# Altium integrated library Maxim Logic Switch.IntLib: 311 symbols (part 5 of 6)
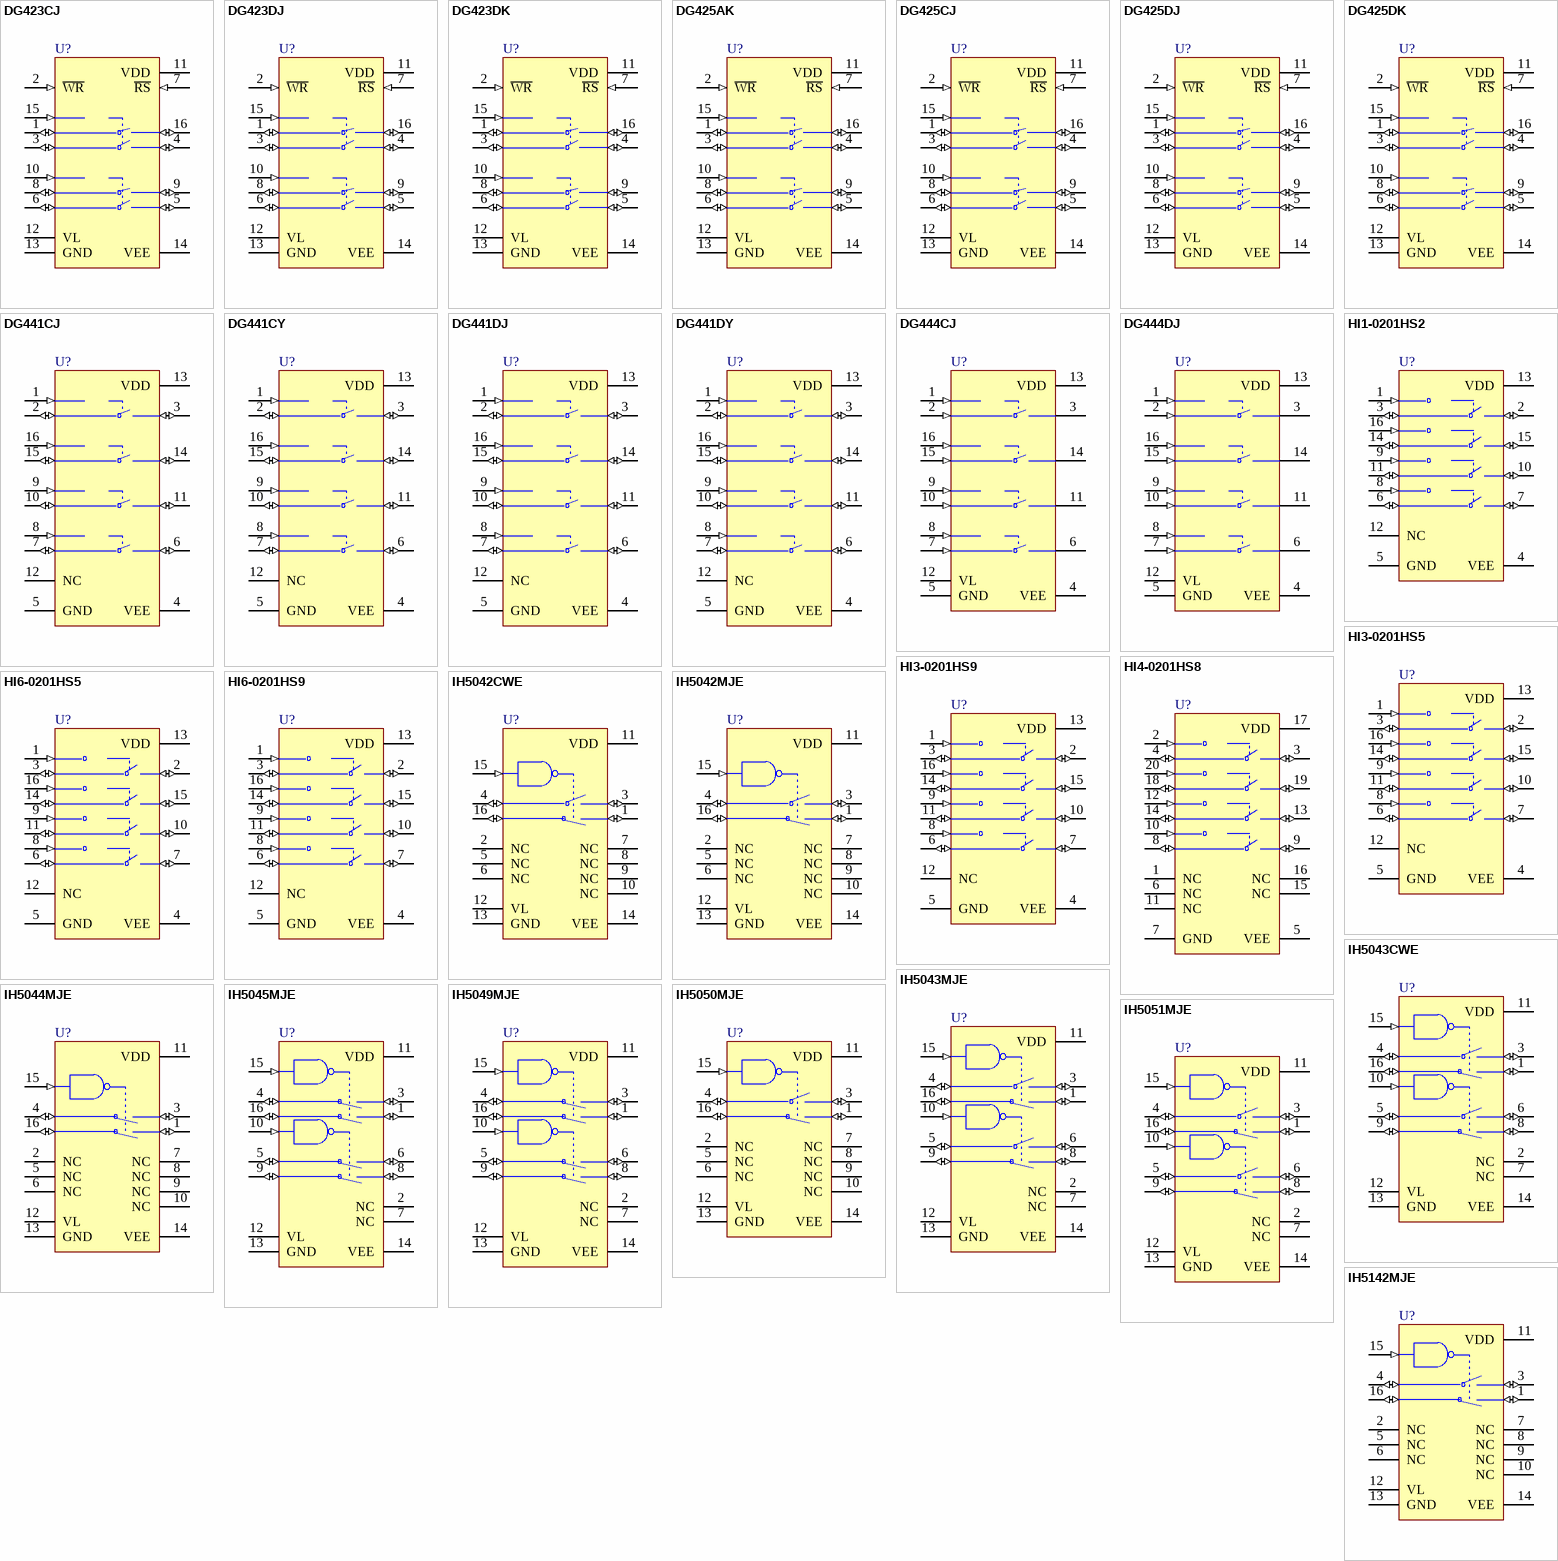
[diagram p14: symbols DG423CJ to IH5142MJE]

## IH5050MJE
designator U?
CMOS Analog Switch; Published: 16-Jan-2001; LatestRevisionDate: 29-May-2009; LatestRevisionNote: Component Body Added.; DatasheetVersion: Dec-1992; PackageVersion: 1996; PackageReference: JE16; Publisher: Altium Limited; PackageDescription: DIP, 16-Pin, Row Spacing 7.62 mm, Pitch 2.54 mm; ComponentLink1Description: Manufacturer Link; ComponentLink1URL: http://www.maxim-ic.com/; ComponentLink2Description: Datasheet; ComponentLink2URL: http://pdfserv.maxim-ic.com/en/ds/IH5048-IH5051.pdf
footprint JE16 (DIP, 16-Leads, Row Spacing 7.62mm, Pitch 2.54mm, Body 20.37x6.73mm)
3D model JE16 (DIP, 16-Pin, Row Spacing 7.62 mm, Pitch 2.54 mm)
pins: 1 D1 (io), 2 NC, 3 D2 (io), 4 S2 (io), 5 NC, 6 NC, 7 NC, 8 NC, 9 NC, 10 NC, 11 VDD (power), 12 VL (power), 13 GND (power), 14 VEE (power), 15 IN (in), 16 S1 (io)

## IH5051MJE
designator U?
CMOS Analog Switch; Published: 16-Jan-2001; LatestRevisionDate: 29-May-2009; LatestRevisionNote: Component Body Added.; DatasheetVersion: Dec-1992; PackageVersion: 1996; PackageReference: JE16; Publisher: Altium Limited; PackageDescription: DIP, 16-Pin, Row Spacing 7.62 mm, Pitch 2.54 mm; ComponentLink1Description: Manufacturer Link; ComponentLink1URL: http://www.maxim-ic.com/; ComponentLink2Description: Datasheet; ComponentLink2URL: http://pdfserv.maxim-ic.com/en/ds/IH5048-IH5051.pdf
footprint JE16 (DIP, 16-Leads, Row Spacing 7.62mm, Pitch 2.54mm, Body 20.37x6.73mm)
3D model JE16 (DIP, 16-Pin, Row Spacing 7.62 mm, Pitch 2.54 mm)
pins: 1 D1 (io), 2 NC, 3 D3 (io), 4 S3 (io), 5 S4 (io), 6 D4 (io), 7 NC, 8 D2 (io), 9 S2 (io), 10 IN2 (in), 11 VDD (power), 12 VL (power), 13 GND (power), 14 VEE (power), 15 IN1 (in), 16 S1 (io)

## IH5142MJE
designator U?
Low Power Fast CMOS Analog Switch; Published: 16-Jan-2001; LatestRevisionDate: 29-May-2009; LatestRevisionNote: Component Body Added.; PackageVersion: 1996; PackageReference: JE16; Publisher: Altium Limited; PackageDescription: DIP, 16-Pin, Row Spacing 7.62 mm, Pitch 2.54 mm; ComponentLink1Description: Manufacturer Link; ComponentLink1URL: http://www.maxim-ic.com/; ComponentLink2Description: Datasheet; ComponentLink2URL: http://pdfserv.maxim-ic.com/en/ds/IH5140-IH5145.pdf
footprint JE16 (DIP, 16-Leads, Row Spacing 7.62mm, Pitch 2.54mm, Body 20.37x6.73mm)
3D model JE16 (DIP, 16-Pin, Row Spacing 7.62 mm, Pitch 2.54 mm)
pins: 1 D1 (io), 2 NC, 3 D2 (io), 4 S2 (io), 5 NC, 6 NC, 7 NC, 8 NC, 9 NC, 10 NC, 11 VDD (power), 12 VL (power), 13 GND (power), 14 VEE (power), 15 IN (in), 16 S1 (io)

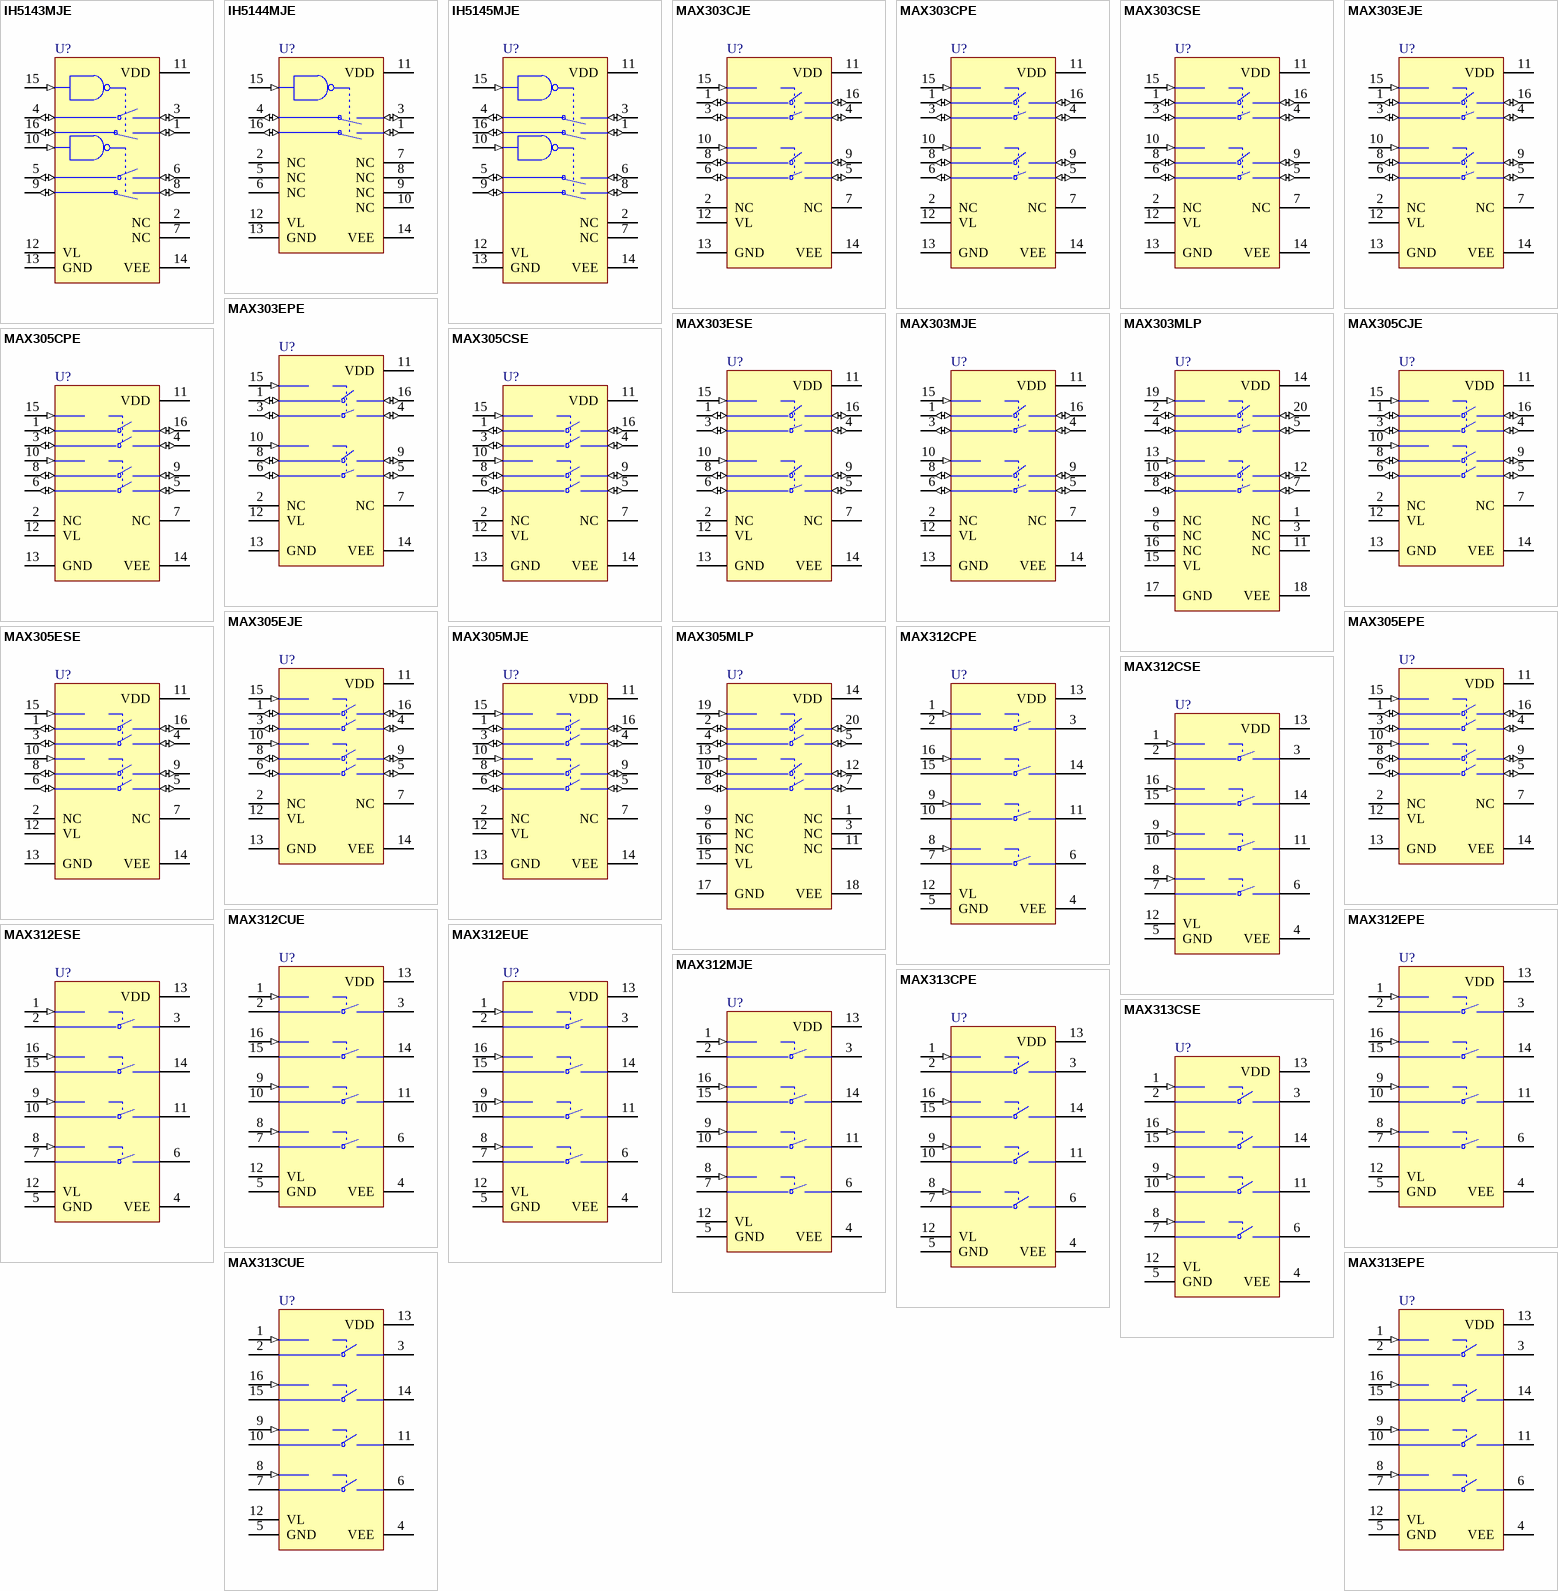
[diagram p7: symbols IH5143MJE to MAX313EPE]

## IH5143MJE
designator U?
Low Power Fast CMOS Analog Switch; Published: 16-Jan-2001; LatestRevisionDate: 29-May-2009; LatestRevisionNote: Component Body Added.; PackageVersion: 1996; PackageReference: JE16; Publisher: Altium Limited; PackageDescription: DIP, 16-Pin, Row Spacing 7.62 mm, Pitch 2.54 mm; ComponentLink1Description: Manufacturer Link; ComponentLink1URL: http://www.maxim-ic.com/; ComponentLink2Description: Datasheet; ComponentLink2URL: http://pdfserv.maxim-ic.com/en/ds/IH5140-IH5145.pdf
footprint JE16 (DIP, 16-Leads, Row Spacing 7.62mm, Pitch 2.54mm, Body 20.37x6.73mm)
3D model JE16 (DIP, 16-Pin, Row Spacing 7.62 mm, Pitch 2.54 mm)
pins: 1 D1 (io), 2 NC, 3 D3 (io), 4 S3 (io), 5 S4 (io), 6 D4 (io), 7 NC, 8 D2 (io), 9 S2 (io), 10 IN2 (in), 11 VDD (power), 12 VL (power), 13 GND (power), 14 VEE (power), 15 IN1 (in), 16 S1 (io)

## IH5144MJE
designator U?
Low Power Fast CMOS Analog Switch; Published: 16-Jan-2001; LatestRevisionDate: 29-May-2009; LatestRevisionNote: Component Body Added.; PackageVersion: 1996; PackageReference: JE16; Publisher: Altium Limited; PackageDescription: DIP, 16-Pin, Row Spacing 7.62 mm, Pitch 2.54 mm; ComponentLink1Description: Manufacturer Link; ComponentLink1URL: http://www.maxim-ic.com/; ComponentLink2Description: Datasheet; ComponentLink2URL: http://pdfserv.maxim-ic.com/en/ds/IH5140-IH5145.pdf
footprint JE16 (DIP, 16-Leads, Row Spacing 7.62mm, Pitch 2.54mm, Body 20.37x6.73mm)
3D model JE16 (DIP, 16-Pin, Row Spacing 7.62 mm, Pitch 2.54 mm)
pins: 1 D1 (io), 2 NC, 3 D2 (io), 4 S2 (io), 5 NC, 6 NC, 7 NC, 8 NC, 9 NC, 10 NC, 11 VDD (power), 12 VL (power), 13 GND (power), 14 VEE (power), 15 IN (in), 16 S1 (io)

## IH5145MJE
designator U?
Low Power Fast CMOS Analog Switch; Published: 16-Jan-2001; LatestRevisionDate: 29-May-2009; LatestRevisionNote: Component Body Added.; PackageVersion: 1996; PackageReference: JE16; Publisher: Altium Limited; PackageDescription: DIP, 16-Pin, Row Spacing 7.62 mm, Pitch 2.54 mm; ComponentLink1Description: Manufacturer Link; ComponentLink1URL: http://www.maxim-ic.com/; ComponentLink2Description: Datasheet; ComponentLink2URL: http://pdfserv.maxim-ic.com/en/ds/IH5140-IH5145.pdf
footprint JE16 (DIP, 16-Leads, Row Spacing 7.62mm, Pitch 2.54mm, Body 20.37x6.73mm)
3D model JE16 (DIP, 16-Pin, Row Spacing 7.62 mm, Pitch 2.54 mm)
pins: 1 D1 (io), 2 NC, 3 D3 (io), 4 S3 (io), 5 S4 (io), 6 D4 (io), 7 NC, 8 D2 (io), 9 S2 (io), 10 IN2 (in), 11 VDD (power), 12 VL (power), 13 GND (power), 14 VEE (power), 15 IN1 (in), 16 S1 (io)

## MAX303CJE
designator U?
Precision, Dual, High-speed Analog Switch; Published: 16-Jan-2001; LatestRevisionDate: 29-May-2009; LatestRevisionNote: Component Body Added.; DatasheetVersion: Sep-1993; PackageVersion: 1996; PackageReference: JE16; Publisher: Altium Limited; PackageDescription: DIP, 16-Pin, Row Spacing 7.62 mm, Pitch 2.54 mm; ComponentLink1Description: Manufacturer Link; ComponentLink1URL: http://www.maxim-ic.com/; ComponentLink2Description: Datasheet; ComponentLink2URL: http://pdfserv.maxim-ic.com/en/ds/MAX301-MAX305.pdf
footprint JE16 (DIP, 16-Leads, Row Spacing 7.62mm, Pitch 2.54mm, Body 20.37x6.73mm)
3D model JE16 (DIP, 16-Pin, Row Spacing 7.62 mm, Pitch 2.54 mm)
pins: 1 COM1 (io), 2 NC, 3 COM3 (io), 4 NC3 (io), 5 NC4 (io), 6 COM4 (io), 7 NC, 8 COM2 (io), 9 NO2 (io), 10 IN2 (in), 11 VDD (power), 12 VL (power), 13 GND (power), 14 VEE (power), 15 IN1 (in), 16 NO1 (io)

## MAX303CPE
designator U?
Precision, Dual, High-speed Analog Switch; Published: 16-Jan-2001; LatestRevisionDate: 29-May-2009; LatestRevisionNote: Component Body Added.; DatasheetVersion: Sep-1993; PackageVersion: 1997; PackageReference: PE16A; Publisher: Altium Limited; PackageDescription: DIP, 16-Pin, Row Spacing 7.62 mm, Pitch 2.54 mm; Code_JEDEC: MS-001-BB; ComponentLink1Description: Manufacturer Link; ComponentLink1URL: http://www.maxim-ic.com/; ComponentLink2Description: Datasheet; ComponentLink2URL: http://pdfserv.maxim-ic.com/en/ds/MAX301-MAX305.pdf
footprint PE16A (DIP, 16-Leads, Row Spacing 7.62mm, Pitch 2.54mm, Body 19.18x6.99mm)
3D model PE16 (DIP, 16-Pin, Row Spacing 7.62 mm, Pitch 2.54 mm)
pins: 1 COM1 (io), 2 NC, 3 COM3 (io), 4 NC3 (io), 5 NC4 (io), 6 COM4 (io), 7 NC, 8 COM2 (io), 9 NO2 (io), 10 IN2 (in), 11 VDD (power), 12 VL (power), 13 GND (power), 14 VEE (power), 15 IN1 (in), 16 NO1 (io)

## MAX303CSE
designator U?
Precision, Dual, High-speed Analog Switch; Published: 16-Jan-2001; LatestRevisionDate: 13-Apr-2006; LatestRevisionNote: IPC-7351 Footprint Added.; DatasheetVersion: Sep-1993; PackageReference: NSO16; Publisher: Altium Limited; PackageDescription: 16-Pin Small Outline Integrated Circuit 1.27 mm Pitch; Code_JEDEC: MS-012-AC; Code_IPC: SOIC127P600-16; ComponentLink1Description: Manufacturer Link; ComponentLink1URL: http://www.maxim-ic.com/; ComponentLink2Description: Datasheet; ComponentLink2URL: http://pdfserv.maxim-ic.com/en/ds/MAX301-MAX305.pdf
footprint NSO16_N (SOIC, 16-Leads, Body 9.9x3.9mm, Pitch 1.27mm, IPC Medium Density)
footprint NSO16_L (SOIC, 16-Leads, Body 9.9x3.9mm, Pitch 1.27mm, IPC High Density)
footprint NSO16_M (SOIC, 16-Leads, Body 9.9x3.9mm, Pitch 1.27mm, IPC Low Density)
3D model NSO16 (16-Pin Small Outline Integrated Circuit 1.27 mm Pitch)
pins: 1 COM1 (io), 2 NC, 3 COM3 (io), 4 NC3 (io), 5 NC4 (io), 6 COM4 (io), 7 NC, 8 COM2 (io), 9 NO2 (io), 10 IN2 (in), 11 VDD (power), 12 VL (power), 13 GND (power), 14 VEE (power), 15 IN1 (in), 16 NO1 (io)

## MAX303EJE
designator U?
Precision, Dual, High-speed Analog Switch; Published: 16-Jan-2001; LatestRevisionDate: 29-May-2009; LatestRevisionNote: Component Body Added.; DatasheetVersion: Sep-1993; PackageVersion: 1996; PackageReference: JE16; Publisher: Altium Limited; PackageDescription: DIP, 16-Pin, Row Spacing 7.62 mm, Pitch 2.54 mm; ComponentLink1Description: Manufacturer Link; ComponentLink1URL: http://www.maxim-ic.com/; ComponentLink2Description: Datasheet; ComponentLink2URL: http://pdfserv.maxim-ic.com/en/ds/MAX301-MAX305.pdf
footprint JE16 (DIP, 16-Leads, Row Spacing 7.62mm, Pitch 2.54mm, Body 20.37x6.73mm)
3D model JE16 (DIP, 16-Pin, Row Spacing 7.62 mm, Pitch 2.54 mm)
pins: 1 COM1 (io), 2 NC, 3 COM3 (io), 4 NC3 (io), 5 NC4 (io), 6 COM4 (io), 7 NC, 8 COM2 (io), 9 NO2 (io), 10 IN2 (in), 11 VDD (power), 12 VL (power), 13 GND (power), 14 VEE (power), 15 IN1 (in), 16 NO1 (io)

## MAX303EPE
designator U?
Precision, Dual, High-speed Analog Switch; Published: 16-Jan-2001; LatestRevisionDate: 29-May-2009; LatestRevisionNote: Component Body Added.; DatasheetVersion: Sep-1993; PackageVersion: 1997; PackageReference: PE16A; Publisher: Altium Limited; PackageDescription: DIP, 16-Pin, Row Spacing 7.62 mm, Pitch 2.54 mm; Code_JEDEC: MS-001-BB; ComponentLink1Description: Manufacturer Link; ComponentLink1URL: http://www.maxim-ic.com/; ComponentLink2Description: Datasheet; ComponentLink2URL: http://pdfserv.maxim-ic.com/en/ds/MAX301-MAX305.pdf
footprint PE16A (DIP, 16-Leads, Row Spacing 7.62mm, Pitch 2.54mm, Body 19.18x6.99mm)
3D model PE16 (DIP, 16-Pin, Row Spacing 7.62 mm, Pitch 2.54 mm)
pins: 1 COM1 (io), 2 NC, 3 COM3 (io), 4 NC3 (io), 5 NC4 (io), 6 COM4 (io), 7 NC, 8 COM2 (io), 9 NO2 (io), 10 IN2 (in), 11 VDD (power), 12 VL (power), 13 GND (power), 14 VEE (power), 15 IN1 (in), 16 NO1 (io)

## MAX303ESE
designator U?
Precision, Dual, High-speed Analog Switch; Published: 16-Jan-2001; LatestRevisionDate: 13-Apr-2006; LatestRevisionNote: IPC-7351 Footprint Added.; DatasheetVersion: Sep-1993; PackageReference: NSO16; Publisher: Altium Limited; PackageDescription: 16-Pin Small Outline Integrated Circuit 1.27 mm Pitch; Code_JEDEC: MS-012-AC; Code_IPC: SOIC127P600-16; ComponentLink1Description: Manufacturer Link; ComponentLink1URL: http://www.maxim-ic.com/; ComponentLink2Description: Datasheet; ComponentLink2URL: http://pdfserv.maxim-ic.com/en/ds/MAX301-MAX305.pdf
footprint NSO16_N (SOIC, 16-Leads, Body 9.9x3.9mm, Pitch 1.27mm, IPC Medium Density)
footprint NSO16_L (SOIC, 16-Leads, Body 9.9x3.9mm, Pitch 1.27mm, IPC High Density)
footprint NSO16_M (SOIC, 16-Leads, Body 9.9x3.9mm, Pitch 1.27mm, IPC Low Density)
3D model NSO16 (16-Pin Small Outline Integrated Circuit 1.27 mm Pitch)
pins: 1 COM1 (io), 2 NC, 3 COM3 (io), 4 NC3 (io), 5 NC4 (io), 6 COM4 (io), 7 NC, 8 COM2 (io), 9 NO2 (io), 10 IN2 (in), 11 VDD (power), 12 VL (power), 13 GND (power), 14 VEE (power), 15 IN1 (in), 16 NO1 (io)

## MAX303MJE
designator U?
Precision, Dual, High-speed Analog Switch; Published: 16-Jan-2001; LatestRevisionDate: 29-May-2009; LatestRevisionNote: Component Body Added.; DatasheetVersion: Sep-1993; PackageVersion: 1996; PackageReference: JE16; Publisher: Altium Limited; PackageDescription: DIP, 16-Pin, Row Spacing 7.62 mm, Pitch 2.54 mm; ComponentLink1Description: Manufacturer Link; ComponentLink1URL: http://www.maxim-ic.com/; ComponentLink2Description: Datasheet; ComponentLink2URL: http://pdfserv.maxim-ic.com/en/ds/MAX301-MAX305.pdf
footprint JE16 (DIP, 16-Leads, Row Spacing 7.62mm, Pitch 2.54mm, Body 20.37x6.73mm)
3D model JE16 (DIP, 16-Pin, Row Spacing 7.62 mm, Pitch 2.54 mm)
pins: 1 COM1 (io), 2 NC, 3 COM3 (io), 4 NC3 (io), 5 NC4 (io), 6 COM4 (io), 7 NC, 8 COM2 (io), 9 NO2 (io), 10 IN2 (in), 11 VDD (power), 12 VL (power), 13 GND (power), 14 VEE (power), 15 IN1 (in), 16 NO1 (io)

## MAX303MLP
designator U?
Precision, Dual, High-speed Analog Switch; Published: 16-Jan-2001; LatestRevisionDate: 17-Jul-2002; LatestRevisionNote: Re-released for DXP Platform.; DatasheetVersion: Sep-1993; PackageReference: LCC20; Publisher: Altium Limited; PackageDescription: Leadless Chip Carrier; 20 Terminals; Body 8.9 x 8.9 mm; ComponentLink1Description: Manufacturer Link; ComponentLink1URL: http://www.maxim-ic.com/; ComponentLink2Description: Datasheet; ComponentLink2URL: http://pdfserv.maxim-ic.com/en/ds/MAX301-MAX305.pdf
footprint LCC20 (Leadless Chip Carrier; 20 Terminals; Body 8.9 x 8.9 mm)
footprint LCC20_N (Leadless Chip Carrier, 20-Leads, Body 8.9x8.9mm, Pitch 1.27mm, IPC Medium Density)
footprint LCC20_L (Leadless Chip Carrier, 20-Leads, Body 8.9x8.9mm, Pitch 1.27mm, IPC High Density)
footprint LCC20_M (Leadless Chip Carrier, 20-Leads, Body 8.9x8.9mm, Pitch 1.27mm, IPC Low Density)
pins: 1 NC, 2 COM1 (io), 3 NC, 4 COM3 (io), 5 NC3 (io), 6 NC, 7 NC4 (io), 8 COM4 (io), 9 NC, 10 COM2 (io), 11 NC, 12 NO2 (io), 13 IN2 (in), 14 VDD (power), 15 VL (power), 16 NC, 17 GND (power), 18 VEE (power), 19 IN1 (in), 20 NO1 (io)

## MAX305CJE
designator U?
Precision, Dual, High-speed Analog Switch; Published: 16-Jan-2001; LatestRevisionDate: 29-May-2009; LatestRevisionNote: Component Body Added.; DatasheetVersion: Sep-1993; PackageVersion: 1996; PackageReference: JE16; Publisher: Altium Limited; PackageDescription: DIP, 16-Pin, Row Spacing 7.62 mm, Pitch 2.54 mm; ComponentLink1Description: Manufacturer Link; ComponentLink1URL: http://www.maxim-ic.com/; ComponentLink2Description: Datasheet; ComponentLink2URL: http://pdfserv.maxim-ic.com/en/ds/MAX301-MAX305.pdf
footprint JE16 (DIP, 16-Leads, Row Spacing 7.62mm, Pitch 2.54mm, Body 20.37x6.73mm)
3D model JE16 (DIP, 16-Pin, Row Spacing 7.62 mm, Pitch 2.54 mm)
pins: 1 COM1 (io), 2 NC, 3 COM3 (io), 4 NO3 (io), 5 NO4 (io), 6 COM4 (io), 7 NC, 8 COM2 (io), 9 NO2 (io), 10 IN2 (in), 11 VDD (power), 12 VL (power), 13 GND (power), 14 VEE (power), 15 IN1 (in), 16 NO1 (io)

## MAX305CPE
designator U?
Precision, Dual, High-speed Analog Switch; Published: 16-Jan-2001; LatestRevisionDate: 29-May-2009; LatestRevisionNote: Component Body Added.; DatasheetVersion: Sep-1993; PackageVersion: 1997; PackageReference: PE16A; Publisher: Altium Limited; PackageDescription: DIP, 16-Pin, Row Spacing 7.62 mm, Pitch 2.54 mm; Code_JEDEC: MS-001-BB; ComponentLink1Description: Manufacturer Link; ComponentLink1URL: http://www.maxim-ic.com/; ComponentLink2Description: Datasheet; ComponentLink2URL: http://pdfserv.maxim-ic.com/en/ds/MAX301-MAX305.pdf
footprint PE16A (DIP, 16-Leads, Row Spacing 7.62mm, Pitch 2.54mm, Body 19.18x6.99mm)
3D model PE16 (DIP, 16-Pin, Row Spacing 7.62 mm, Pitch 2.54 mm)
pins: 1 COM1 (io), 2 NC, 3 COM3 (io), 4 NO3 (io), 5 NO4 (io), 6 COM4 (io), 7 NC, 8 COM2 (io), 9 NO2 (io), 10 IN2 (in), 11 VDD (power), 12 VL (power), 13 GND (power), 14 VEE (power), 15 IN1 (in), 16 NO1 (io)

## MAX305CSE
designator U?
Precision, Dual, High-speed Analog Switch; Published: 16-Jan-2001; LatestRevisionDate: 13-Apr-2006; LatestRevisionNote: IPC-7351 Footprint Added.; DatasheetVersion: Sep-1993; PackageReference: NSO16; Publisher: Altium Limited; PackageDescription: 16-Pin Small Outline Integrated Circuit 1.27 mm Pitch; Code_JEDEC: MS-012-AC; Code_IPC: SOIC127P600-16; ComponentLink1Description: Manufacturer Link; ComponentLink1URL: http://www.maxim-ic.com/; ComponentLink2Description: Datasheet; ComponentLink2URL: http://pdfserv.maxim-ic.com/en/ds/MAX301-MAX305.pdf
footprint NSO16_N (SOIC, 16-Leads, Body 9.9x3.9mm, Pitch 1.27mm, IPC Medium Density)
footprint NSO16_L (SOIC, 16-Leads, Body 9.9x3.9mm, Pitch 1.27mm, IPC High Density)
footprint NSO16_M (SOIC, 16-Leads, Body 9.9x3.9mm, Pitch 1.27mm, IPC Low Density)
3D model NSO16 (16-Pin Small Outline Integrated Circuit 1.27 mm Pitch)
pins: 1 COM1 (io), 2 NC, 3 COM3 (io), 4 NO3 (io), 5 NO4 (io), 6 COM4 (io), 7 NC, 8 COM2 (io), 9 NO2 (io), 10 IN2 (in), 11 VDD (power), 12 VL (power), 13 GND (power), 14 VEE (power), 15 IN1 (in), 16 NO1 (io)

## MAX305EJE
designator U?
Precision, Dual, High-speed Analog Switch; Published: 16-Jan-2001; LatestRevisionDate: 29-May-2009; LatestRevisionNote: Component Body Added.; DatasheetVersion: Sep-1993; PackageVersion: 1996; PackageReference: JE16; Publisher: Altium Limited; PackageDescription: DIP, 16-Pin, Row Spacing 7.62 mm, Pitch 2.54 mm; ComponentLink1Description: Manufacturer Link; ComponentLink1URL: http://www.maxim-ic.com/; ComponentLink2Description: Datasheet; ComponentLink2URL: http://pdfserv.maxim-ic.com/en/ds/MAX301-MAX305.pdf
footprint JE16 (DIP, 16-Leads, Row Spacing 7.62mm, Pitch 2.54mm, Body 20.37x6.73mm)
3D model JE16 (DIP, 16-Pin, Row Spacing 7.62 mm, Pitch 2.54 mm)
pins: 1 COM1 (io), 2 NC, 3 COM3 (io), 4 NO3 (io), 5 NO4 (io), 6 COM4 (io), 7 NC, 8 COM2 (io), 9 NO2 (io), 10 IN2 (in), 11 VDD (power), 12 VL (power), 13 GND (power), 14 VEE (power), 15 IN1 (in), 16 NO1 (io)

## MAX305EPE
designator U?
Precision, Dual, High-speed Analog Switch; Published: 16-Jan-2001; LatestRevisionDate: 29-May-2009; LatestRevisionNote: Component Body Added.; DatasheetVersion: Sep-1993; PackageVersion: 1997; PackageReference: PE16A; Publisher: Altium Limited; PackageDescription: DIP, 16-Pin, Row Spacing 7.62 mm, Pitch 2.54 mm; Code_JEDEC: MS-001-BB; ComponentLink1Description: Manufacturer Link; ComponentLink1URL: http://www.maxim-ic.com/; ComponentLink2Description: Datasheet; ComponentLink2URL: http://pdfserv.maxim-ic.com/en/ds/MAX301-MAX305.pdf
footprint PE16A (DIP, 16-Leads, Row Spacing 7.62mm, Pitch 2.54mm, Body 19.18x6.99mm)
3D model PE16 (DIP, 16-Pin, Row Spacing 7.62 mm, Pitch 2.54 mm)
pins: 1 COM1 (io), 2 NC, 3 COM3 (io), 4 NO3 (io), 5 NO4 (io), 6 COM4 (io), 7 NC, 8 COM2 (io), 9 NO2 (io), 10 IN2 (in), 11 VDD (power), 12 VL (power), 13 GND (power), 14 VEE (power), 15 IN1 (in), 16 NO1 (io)

## MAX305ESE
designator U?
Precision, Dual, High-speed Analog Switch; Published: 16-Jan-2001; LatestRevisionDate: 13-Apr-2006; LatestRevisionNote: IPC-7351 Footprint Added.; DatasheetVersion: Sep-1993; PackageReference: NSO16; Publisher: Altium Limited; PackageDescription: 16-Pin Small Outline Integrated Circuit 1.27 mm Pitch; Code_JEDEC: MS-012-AC; Code_IPC: SOIC127P600-16; ComponentLink1Description: Manufacturer Link; ComponentLink1URL: http://www.maxim-ic.com/; ComponentLink2Description: Datasheet; ComponentLink2URL: http://pdfserv.maxim-ic.com/en/ds/MAX301-MAX305.pdf
footprint NSO16_N (SOIC, 16-Leads, Body 9.9x3.9mm, Pitch 1.27mm, IPC Medium Density)
footprint NSO16_L (SOIC, 16-Leads, Body 9.9x3.9mm, Pitch 1.27mm, IPC High Density)
footprint NSO16_M (SOIC, 16-Leads, Body 9.9x3.9mm, Pitch 1.27mm, IPC Low Density)
3D model NSO16 (16-Pin Small Outline Integrated Circuit 1.27 mm Pitch)
pins: 1 COM1 (io), 2 NC, 3 COM3 (io), 4 NO3 (io), 5 NO4 (io), 6 COM4 (io), 7 NC, 8 COM2 (io), 9 NO2 (io), 10 IN2 (in), 11 VDD (power), 12 VL (power), 13 GND (power), 14 VEE (power), 15 IN1 (in), 16 NO1 (io)

## MAX305MJE
designator U?
Precision, Dual, High-speed Analog Switch; Published: 16-Jan-2001; LatestRevisionDate: 29-May-2009; LatestRevisionNote: Component Body Added.; DatasheetVersion: Sep-1993; PackageVersion: 1996; PackageReference: JE16; Publisher: Altium Limited; PackageDescription: DIP, 16-Pin, Row Spacing 7.62 mm, Pitch 2.54 mm; ComponentLink1Description: Manufacturer Link; ComponentLink1URL: http://www.maxim-ic.com/; ComponentLink2Description: Datasheet; ComponentLink2URL: http://pdfserv.maxim-ic.com/en/ds/MAX301-MAX305.pdf
footprint JE16 (DIP, 16-Leads, Row Spacing 7.62mm, Pitch 2.54mm, Body 20.37x6.73mm)
3D model JE16 (DIP, 16-Pin, Row Spacing 7.62 mm, Pitch 2.54 mm)
pins: 1 COM1 (io), 2 NC, 3 COM3 (io), 4 NO3 (io), 5 NO4 (io), 6 COM4 (io), 7 NC, 8 COM2 (io), 9 NO2 (io), 10 IN2 (in), 11 VDD (power), 12 VL (power), 13 GND (power), 14 VEE (power), 15 IN1 (in), 16 NO1 (io)

## MAX305MLP
designator U?
Precision, Dual, High-speed Analog Switch; Published: 16-Jan-2001; LatestRevisionDate: 11-Oct-2004; LatestRevisionNote: Internal symbol depicting switch operation altered.; DatasheetVersion: Sep-1993; PackageReference: LCC20; Publisher: Altium Limited; PackageDescription: Leadless Chip Carrier; 20 Terminals; Body 8.9 x 8.9 mm; ComponentLink1Description: Manufacturer Link; ComponentLink1URL: http://www.maxim-ic.com/; ComponentLink2Description: Datasheet; ComponentLink2URL: http://pdfserv.maxim-ic.com/en/ds/MAX301-MAX305.pdf
footprint LCC20 (Leadless Chip Carrier; 20 Terminals; Body 8.9 x 8.9 mm)
footprint LCC20_N (Leadless Chip Carrier, 20-Leads, Body 8.9x8.9mm, Pitch 1.27mm, IPC Medium Density)
footprint LCC20_L (Leadless Chip Carrier, 20-Leads, Body 8.9x8.9mm, Pitch 1.27mm, IPC High Density)
footprint LCC20_M (Leadless Chip Carrier, 20-Leads, Body 8.9x8.9mm, Pitch 1.27mm, IPC Low Density)
pins: 1 NC, 2 COM1 (io), 3 NC, 4 COM3 (io), 5 NO3 (io), 6 NC, 7 NO4 (io), 8 COM4 (io), 9 NC, 10 COM2 (io), 11 NC, 12 NO2 (io), 13 IN2 (in), 14 VDD (power), 15 VL (power), 16 NC, 17 GND (power), 18 VEE (power), 19 IN1 (in), 20 NO1 (io)

## MAX312CPE
designator U?
10-Ohm, Quad, SPST, CMOS Analog Switches; Published: 16-Jan-2001; LatestRevisionDate: 29-May-2009; LatestRevisionNote: Component Body Added.; DatasheetVersion: Jun-1999; PackageVersion: 1997; PackageReference: PE16A; Publisher: Altium Limited; PackageDescription: DIP, 16-Pin, Row Spacing 7.62 mm, Pitch 2.54 mm; Code_JEDEC: MS-001-BB; ComponentLink1Description: Manufacturer Link; ComponentLink1URL: http://www.maxim-ic.com/; ComponentLink2Description: Datasheet; ComponentLink2URL: http://pdfserv.maxim-ic.com/en/ds/MAX312-MAX314.pdf
footprint PE16A (DIP, 16-Leads, Row Spacing 7.62mm, Pitch 2.54mm, Body 19.18x6.99mm)
3D model PE16 (DIP, 16-Pin, Row Spacing 7.62 mm, Pitch 2.54 mm)
pins: 1 IN1 (in), 2 COM1, 3 NC1, 4 VEE (power), 5 GND (power), 6 NC4, 7 COM4, 8 IN 4 (in), 9 IN3 (in), 10 COM3, 11 NC3, 12 VL (power), 13 VDD (power), 14 NC2, 15 COM2, 16 IN2 (in)

## MAX312CSE
designator U?
10-Ohm, Quad, SPST, CMOS Analog Switches; Published: 16-Jan-2001; LatestRevisionDate: 13-Apr-2006; LatestRevisionNote: IPC-7351 Footprint Added.; DatasheetVersion: Jun-1999; PackageReference: NSO16; Publisher: Altium Limited; PackageDescription: 16-Pin Small Outline Integrated Circuit 1.27 mm Pitch; Code_JEDEC: MS-012-AC; Code_IPC: SOIC127P600-16; ComponentLink1Description: Manufacturer Link; ComponentLink1URL: http://www.maxim-ic.com/; ComponentLink2Description: Datasheet; ComponentLink2URL: http://pdfserv.maxim-ic.com/en/ds/MAX312-MAX314.pdf
footprint NSO16_N (SOIC, 16-Leads, Body 9.9x3.9mm, Pitch 1.27mm, IPC Medium Density)
footprint NSO16_L (SOIC, 16-Leads, Body 9.9x3.9mm, Pitch 1.27mm, IPC High Density)
footprint NSO16_M (SOIC, 16-Leads, Body 9.9x3.9mm, Pitch 1.27mm, IPC Low Density)
3D model NSO16 (16-Pin Small Outline Integrated Circuit 1.27 mm Pitch)
pins: 1 IN1 (in), 2 COM1, 3 NC1, 4 VEE (power), 5 GND (power), 6 NC4, 7 COM4, 8 IN 4 (in), 9 IN3 (in), 10 COM3, 11 NC3, 12 VL (power), 13 VDD (power), 14 NC2, 15 COM2, 16 IN2 (in)

## MAX312CUE
designator U?
10-Ohm, Quad, SPST, CMOS Analog Switches; Published: 16-Jan-2001; LatestRevisionDate: 29-May-2009; LatestRevisionNote: IPC-7351 Footprint Added.; DatasheetVersion: Jun-1999; PackageVersion: 21-0066 C; PackageReference: TSSOP16; Publisher: Altium Limited; PackageDescription: 16-Pin Thin Small Outline Package 0.65 mm Pitch; ComponentLink1Description: Manufacturer Link; ComponentLink1URL: http://www.maxim-ic.com/; ComponentLink2Description: Datasheet; ComponentLink2URL: http://pdfserv.maxim-ic.com/en/ds/MAX312-MAX314.pdf
footprint TSSOP16_N (TSOP, 16-Leads, Body 5x4.4mm, Pitch 0.65mm, IPC Medium Density)
footprint TSSOP16_L (TSOP, 16-Leads, Body 5x4.4mm, Pitch 0.65mm, IPC High Density)
footprint TSSOP16_M (TSOP, 16-Leads, Body 5x4.4mm, Pitch 0.65mm, IPC Low Density)
3D model TSSOP16 (16-Pin Thin Small Outline Package 0.65 mm Pitch)
pins: 1 IN1 (in), 2 COM1, 3 NC1, 4 VEE (power), 5 GND (power), 6 NC4, 7 COM4, 8 IN 4 (in), 9 IN3 (in), 10 COM3, 11 NC3, 12 VL (power), 13 VDD (power), 14 NC2, 15 COM2, 16 IN2 (in)

## MAX312EPE
designator U?
10-Ohm, Quad, SPST, CMOS Analog Switches; Published: 16-Jan-2001; LatestRevisionDate: 29-May-2009; LatestRevisionNote: Component Body Added.; DatasheetVersion: Jun-1999; PackageVersion: 1997; PackageReference: PE16A; Publisher: Altium Limited; PackageDescription: DIP, 16-Pin, Row Spacing 7.62 mm, Pitch 2.54 mm; Code_JEDEC: MS-001-BB; ComponentLink1Description: Manufacturer Link; ComponentLink1URL: http://www.maxim-ic.com/; ComponentLink2Description: Datasheet; ComponentLink2URL: http://pdfserv.maxim-ic.com/en/ds/MAX312-MAX314.pdf
footprint PE16A (DIP, 16-Leads, Row Spacing 7.62mm, Pitch 2.54mm, Body 19.18x6.99mm)
3D model PE16 (DIP, 16-Pin, Row Spacing 7.62 mm, Pitch 2.54 mm)
pins: 1 IN1 (in), 2 COM1, 3 NC1, 4 VEE (power), 5 GND (power), 6 NC4, 7 COM4, 8 IN 4 (in), 9 IN3 (in), 10 COM3, 11 NC3, 12 VL (power), 13 VDD (power), 14 NC2, 15 COM2, 16 IN2 (in)

## MAX312ESE
designator U?
10-Ohm, Quad, SPST, CMOS Analog Switches; Published: 16-Jan-2001; LatestRevisionDate: 13-Apr-2006; LatestRevisionNote: IPC-7351 Footprint Added.; DatasheetVersion: Jun-1999; PackageReference: NSO16; Publisher: Altium Limited; PackageDescription: 16-Pin Small Outline Integrated Circuit 1.27 mm Pitch; Code_JEDEC: MS-012-AC; Code_IPC: SOIC127P600-16; ComponentLink1Description: Manufacturer Link; ComponentLink1URL: http://www.maxim-ic.com/; ComponentLink2Description: Datasheet; ComponentLink2URL: http://pdfserv.maxim-ic.com/en/ds/MAX312-MAX314.pdf
footprint NSO16_N (SOIC, 16-Leads, Body 9.9x3.9mm, Pitch 1.27mm, IPC Medium Density)
footprint NSO16_L (SOIC, 16-Leads, Body 9.9x3.9mm, Pitch 1.27mm, IPC High Density)
footprint NSO16_M (SOIC, 16-Leads, Body 9.9x3.9mm, Pitch 1.27mm, IPC Low Density)
3D model NSO16 (16-Pin Small Outline Integrated Circuit 1.27 mm Pitch)
pins: 1 IN1 (in), 2 COM1, 3 NC1, 4 VEE (power), 5 GND (power), 6 NC4, 7 COM4, 8 IN 4 (in), 9 IN3 (in), 10 COM3, 11 NC3, 12 VL (power), 13 VDD (power), 14 NC2, 15 COM2, 16 IN2 (in)

## MAX312EUE
designator U?
10-Ohm, Quad, SPST, CMOS Analog Switches; Published: 16-Jan-2001; LatestRevisionDate: 29-May-2009; LatestRevisionNote: IPC-7351 Footprint Added.; DatasheetVersion: Jun-1999; PackageVersion: 21-0066 C; PackageReference: TSSOP16; Publisher: Altium Limited; PackageDescription: 16-Pin Thin Small Outline Package 0.65 mm Pitch; ComponentLink1Description: Manufacturer Link; ComponentLink1URL: http://www.maxim-ic.com/; ComponentLink2Description: Datasheet; ComponentLink2URL: http://pdfserv.maxim-ic.com/en/ds/MAX312-MAX314.pdf
footprint TSSOP16_N (TSOP, 16-Leads, Body 5x4.4mm, Pitch 0.65mm, IPC Medium Density)
footprint TSSOP16_L (TSOP, 16-Leads, Body 5x4.4mm, Pitch 0.65mm, IPC High Density)
footprint TSSOP16_M (TSOP, 16-Leads, Body 5x4.4mm, Pitch 0.65mm, IPC Low Density)
3D model TSSOP16 (16-Pin Thin Small Outline Package 0.65 mm Pitch)
pins: 1 IN1 (in), 2 COM1, 3 NC1, 4 VEE (power), 5 GND (power), 6 NC4, 7 COM4, 8 IN 4 (in), 9 IN3 (in), 10 COM3, 11 NC3, 12 VL (power), 13 VDD (power), 14 NC2, 15 COM2, 16 IN2 (in)

## MAX312MJE
designator U?
10-Ohm, Quad, SPST, CMOS Analog Switches; Published: 16-Jan-2001; LatestRevisionDate: 29-May-2009; LatestRevisionNote: Component Body Added.; DatasheetVersion: Jun-1999; PackageVersion: 1996; PackageReference: JE16; Publisher: Altium Limited; PackageDescription: DIP, 16-Pin, Row Spacing 7.62 mm, Pitch 2.54 mm; ComponentLink1Description: Manufacturer Link; ComponentLink1URL: http://www.maxim-ic.com/; ComponentLink2Description: Datasheet; ComponentLink2URL: http://pdfserv.maxim-ic.com/en/ds/MAX312-MAX314.pdf
footprint JE16 (DIP, 16-Leads, Row Spacing 7.62mm, Pitch 2.54mm, Body 20.37x6.73mm)
3D model JE16 (DIP, 16-Pin, Row Spacing 7.62 mm, Pitch 2.54 mm)
pins: 1 IN1 (in), 2 COM1, 3 NC1, 4 VEE (power), 5 GND (power), 6 NC4, 7 COM4, 8 IN 4 (in), 9 IN3 (in), 10 COM3, 11 NC3, 12 VL (power), 13 VDD (power), 14 NC2, 15 COM2, 16 IN2 (in)

## MAX313CPE
designator U?
10-Ohm, Quad, SPST, CMOS Analog Switches; Published: 16-Jan-2001; LatestRevisionDate: 29-May-2009; LatestRevisionNote: Component Body Added.; DatasheetVersion: Jun-1999; PackageVersion: 1997; PackageReference: PE16A; Publisher: Altium Limited; PackageDescription: DIP, 16-Pin, Row Spacing 7.62 mm, Pitch 2.54 mm; Code_JEDEC: MS-001-BB; ComponentLink1Description: Manufacturer Link; ComponentLink1URL: http://www.maxim-ic.com/; ComponentLink2Description: Datasheet; ComponentLink2URL: http://pdfserv.maxim-ic.com/en/ds/MAX312-MAX314.pdf
footprint PE16A (DIP, 16-Leads, Row Spacing 7.62mm, Pitch 2.54mm, Body 19.18x6.99mm)
3D model PE16 (DIP, 16-Pin, Row Spacing 7.62 mm, Pitch 2.54 mm)
pins: 1 IN1 (in), 2 COM1, 3 NO1, 4 VEE (power), 5 GND (power), 6 NO4, 7 COM4, 8 IN 4 (in), 9 IN3 (in), 10 COM3, 11 NO3, 12 VL (power), 13 VDD (power), 14 NO2, 15 COM2, 16 IN2 (in)

## MAX313CSE
designator U?
10-Ohm, Quad, SPST, CMOS Analog Switches; Published: 16-Jan-2001; LatestRevisionDate: 13-Apr-2006; LatestRevisionNote: IPC-7351 Footprint Added.; DatasheetVersion: Jun-1999; PackageReference: NSO16; Publisher: Altium Limited; PackageDescription: 16-Pin Small Outline Integrated Circuit 1.27 mm Pitch; Code_JEDEC: MS-012-AC; Code_IPC: SOIC127P600-16; ComponentLink1Description: Manufacturer Link; ComponentLink1URL: http://www.maxim-ic.com/; ComponentLink2Description: Datasheet; ComponentLink2URL: http://pdfserv.maxim-ic.com/en/ds/MAX312-MAX314.pdf
footprint NSO16_N (SOIC, 16-Leads, Body 9.9x3.9mm, Pitch 1.27mm, IPC Medium Density)
footprint NSO16_L (SOIC, 16-Leads, Body 9.9x3.9mm, Pitch 1.27mm, IPC High Density)
footprint NSO16_M (SOIC, 16-Leads, Body 9.9x3.9mm, Pitch 1.27mm, IPC Low Density)
3D model NSO16 (16-Pin Small Outline Integrated Circuit 1.27 mm Pitch)
pins: 1 IN1 (in), 2 COM1, 3 NO1, 4 VEE (power), 5 GND (power), 6 NO4, 7 COM4, 8 IN 4 (in), 9 IN3 (in), 10 COM3, 11 NO3, 12 VL (power), 13 VDD (power), 14 NO2, 15 COM2, 16 IN2 (in)

## MAX313CUE
designator U?
10-Ohm, Quad, SPST, CMOS Analog Switches; Published: 16-Jan-2001; LatestRevisionDate: 29-May-2009; LatestRevisionNote: IPC-7351 Footprint Added.; DatasheetVersion: Jun-1999; PackageVersion: 21-0066 C; PackageReference: TSSOP16; Publisher: Altium Limited; PackageDescription: 16-Pin Thin Small Outline Package 0.65 mm Pitch; ComponentLink1Description: Manufacturer Link; ComponentLink1URL: http://www.maxim-ic.com/; ComponentLink2Description: Datasheet; ComponentLink2URL: http://pdfserv.maxim-ic.com/en/ds/MAX312-MAX314.pdf
footprint TSSOP16_N (TSOP, 16-Leads, Body 5x4.4mm, Pitch 0.65mm, IPC Medium Density)
footprint TSSOP16_L (TSOP, 16-Leads, Body 5x4.4mm, Pitch 0.65mm, IPC High Density)
footprint TSSOP16_M (TSOP, 16-Leads, Body 5x4.4mm, Pitch 0.65mm, IPC Low Density)
3D model TSSOP16 (16-Pin Thin Small Outline Package 0.65 mm Pitch)
pins: 1 IN1 (in), 2 COM1, 3 NO1, 4 VEE (power), 5 GND (power), 6 NO4, 7 COM4, 8 IN 4 (in), 9 IN3 (in), 10 COM3, 11 NO3, 12 VL (power), 13 VDD (power), 14 NO2, 15 COM2, 16 IN2 (in)

## MAX313EPE
designator U?
10-Ohm, Quad, SPST, CMOS Analog Switches; Published: 16-Jan-2001; LatestRevisionDate: 29-May-2009; LatestRevisionNote: Component Body Added.; DatasheetVersion: Jun-1999; PackageVersion: 1997; PackageReference: PE16A; Publisher: Altium Limited; PackageDescription: DIP, 16-Pin, Row Spacing 7.62 mm, Pitch 2.54 mm; Code_JEDEC: MS-001-BB; ComponentLink1Description: Manufacturer Link; ComponentLink1URL: http://www.maxim-ic.com/; ComponentLink2Description: Datasheet; ComponentLink2URL: http://pdfserv.maxim-ic.com/en/ds/MAX312-MAX314.pdf
footprint PE16A (DIP, 16-Leads, Row Spacing 7.62mm, Pitch 2.54mm, Body 19.18x6.99mm)
3D model PE16 (DIP, 16-Pin, Row Spacing 7.62 mm, Pitch 2.54 mm)
pins: 1 IN1 (in), 2 COM1, 3 NO1, 4 VEE (power), 5 GND (power), 6 NO4, 7 COM4, 8 IN 4 (in), 9 IN3 (in), 10 COM3, 11 NO3, 12 VL (power), 13 VDD (power), 14 NO2, 15 COM2, 16 IN2 (in)

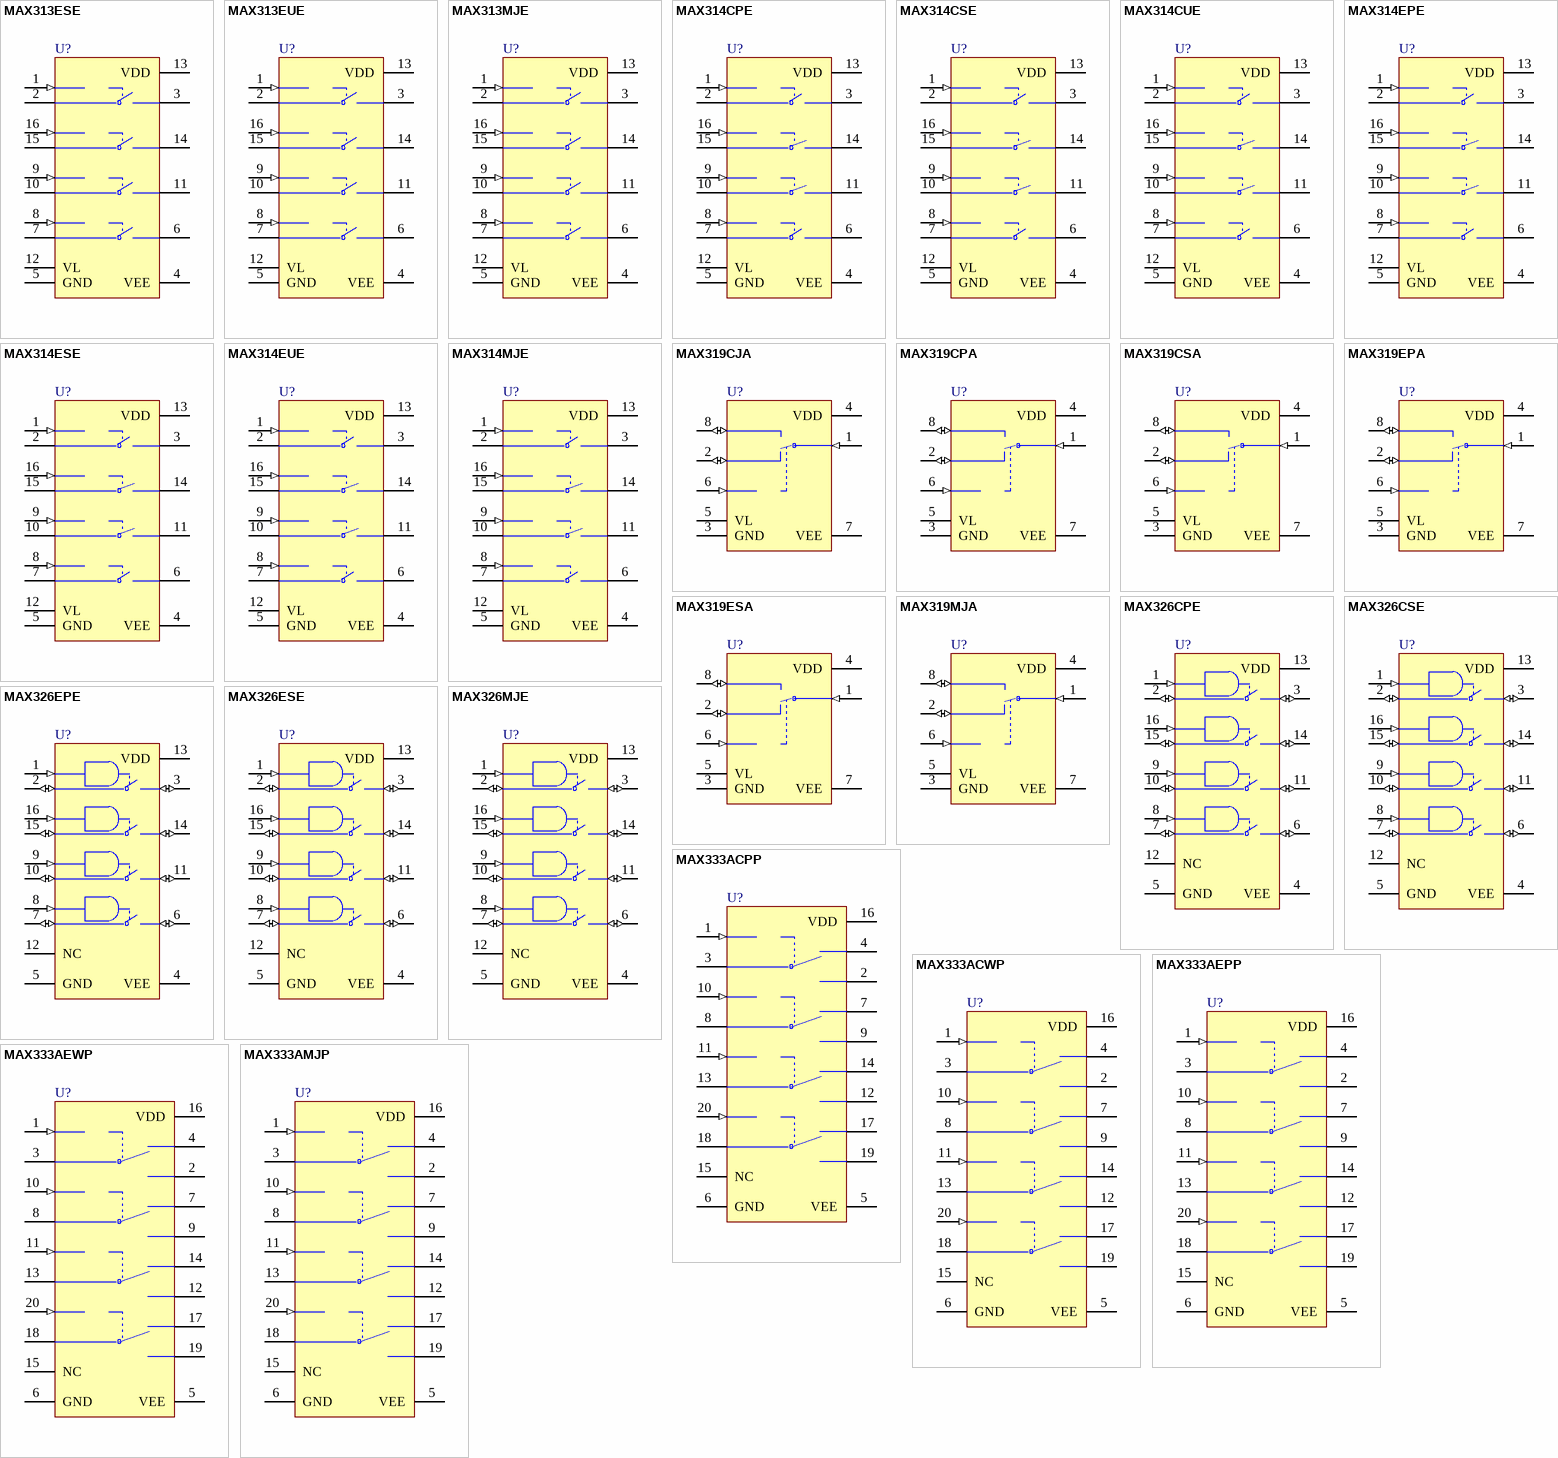
[diagram p8: symbols MAX313ESE to MAX333AMJP]

## MAX313ESE
designator U?
10-Ohm, Quad, SPST, CMOS Analog Switches; Published: 16-Jan-2001; LatestRevisionDate: 13-Apr-2006; LatestRevisionNote: IPC-7351 Footprint Added.; DatasheetVersion: Jun-1999; PackageReference: NSO16; Publisher: Altium Limited; PackageDescription: 16-Pin Small Outline Integrated Circuit 1.27 mm Pitch; Code_JEDEC: MS-012-AC; Code_IPC: SOIC127P600-16; ComponentLink1Description: Manufacturer Link; ComponentLink1URL: http://www.maxim-ic.com/; ComponentLink2Description: Datasheet; ComponentLink2URL: http://pdfserv.maxim-ic.com/en/ds/MAX312-MAX314.pdf
footprint NSO16_N (SOIC, 16-Leads, Body 9.9x3.9mm, Pitch 1.27mm, IPC Medium Density)
footprint NSO16_L (SOIC, 16-Leads, Body 9.9x3.9mm, Pitch 1.27mm, IPC High Density)
footprint NSO16_M (SOIC, 16-Leads, Body 9.9x3.9mm, Pitch 1.27mm, IPC Low Density)
3D model NSO16 (16-Pin Small Outline Integrated Circuit 1.27 mm Pitch)
pins: 1 IN1 (in), 2 COM1, 3 NO1, 4 VEE (power), 5 GND (power), 6 NO4, 7 COM4, 8 IN 4 (in), 9 IN3 (in), 10 COM3, 11 NO3, 12 VL (power), 13 VDD (power), 14 NO2, 15 COM2, 16 IN2 (in)

## MAX313EUE
designator U?
10-Ohm, Quad, SPST, CMOS Analog Switches; Published: 16-Jan-2001; LatestRevisionDate: 29-May-2009; LatestRevisionNote: IPC-7351 Footprint Added.; DatasheetVersion: Jun-1999; PackageVersion: 21-0066 C; PackageReference: TSSOP16; Publisher: Altium Limited; PackageDescription: 16-Pin Thin Small Outline Package 0.65 mm Pitch; ComponentLink1Description: Manufacturer Link; ComponentLink1URL: http://www.maxim-ic.com/; ComponentLink2Description: Datasheet; ComponentLink2URL: http://pdfserv.maxim-ic.com/en/ds/MAX312-MAX314.pdf
footprint TSSOP16_N (TSOP, 16-Leads, Body 5x4.4mm, Pitch 0.65mm, IPC Medium Density)
footprint TSSOP16_L (TSOP, 16-Leads, Body 5x4.4mm, Pitch 0.65mm, IPC High Density)
footprint TSSOP16_M (TSOP, 16-Leads, Body 5x4.4mm, Pitch 0.65mm, IPC Low Density)
3D model TSSOP16 (16-Pin Thin Small Outline Package 0.65 mm Pitch)
pins: 1 IN1 (in), 2 COM1, 3 NO1, 4 VEE (power), 5 GND (power), 6 NO4, 7 COM4, 8 IN 4 (in), 9 IN3 (in), 10 COM3, 11 NO3, 12 VL (power), 13 VDD (power), 14 NO2, 15 COM2, 16 IN2 (in)

## MAX313MJE
designator U?
10-Ohm, Quad, SPST, CMOS Analog Switches; Published: 16-Jan-2001; LatestRevisionDate: 29-May-2009; LatestRevisionNote: Component Body Added.; DatasheetVersion: Jun-1999; PackageVersion: 1996; PackageReference: JE16; Publisher: Altium Limited; PackageDescription: DIP, 16-Pin, Row Spacing 7.62 mm, Pitch 2.54 mm; ComponentLink1Description: Manufacturer Link; ComponentLink1URL: http://www.maxim-ic.com/; ComponentLink2Description: Datasheet; ComponentLink2URL: http://pdfserv.maxim-ic.com/en/ds/MAX312-MAX314.pdf
footprint JE16 (DIP, 16-Leads, Row Spacing 7.62mm, Pitch 2.54mm, Body 20.37x6.73mm)
3D model JE16 (DIP, 16-Pin, Row Spacing 7.62 mm, Pitch 2.54 mm)
pins: 1 IN1 (in), 2 COM1, 3 NO1, 4 VEE (power), 5 GND (power), 6 NO4, 7 COM4, 8 IN 4 (in), 9 IN3 (in), 10 COM3, 11 NO3, 12 VL (power), 13 VDD (power), 14 NO2, 15 COM2, 16 IN2 (in)

## MAX314CPE
designator U?
10-Ohm, Quad, SPST, CMOS Analog Switches; Published: 16-Jan-2001; LatestRevisionDate: 29-May-2009; LatestRevisionNote: Component Body Added.; DatasheetVersion: Jun-1999; PackageVersion: 1997; PackageReference: PE16A; Publisher: Altium Limited; PackageDescription: DIP, 16-Pin, Row Spacing 7.62 mm, Pitch 2.54 mm; Code_JEDEC: MS-001-BB; ComponentLink1Description: Manufacturer Link; ComponentLink1URL: http://www.maxim-ic.com/; ComponentLink2Description: Datasheet; ComponentLink2URL: http://pdfserv.maxim-ic.com/en/ds/MAX312-MAX314.pdf
footprint PE16A (DIP, 16-Leads, Row Spacing 7.62mm, Pitch 2.54mm, Body 19.18x6.99mm)
3D model PE16 (DIP, 16-Pin, Row Spacing 7.62 mm, Pitch 2.54 mm)
pins: 1 IN1 (in), 2 COM1, 3 NO1, 4 VEE (power), 5 GND (power), 6 NO4, 7 COM4, 8 IN 4 (in), 9 IN3 (in), 10 COM3, 11 NC3, 12 VL (power), 13 VDD (power), 14 NC2, 15 COM2, 16 IN2 (in)

## MAX314CSE
designator U?
10-Ohm, Quad, SPST, CMOS Analog Switches; Published: 16-Jan-2001; LatestRevisionDate: 13-Apr-2006; LatestRevisionNote: IPC-7351 Footprint Added.; DatasheetVersion: Jun-1999; PackageReference: NSO16; Publisher: Altium Limited; PackageDescription: 16-Pin Small Outline Integrated Circuit 1.27 mm Pitch; Code_JEDEC: MS-012-AC; Code_IPC: SOIC127P600-16; ComponentLink1Description: Manufacturer Link; ComponentLink1URL: http://www.maxim-ic.com/; ComponentLink2Description: Datasheet; ComponentLink2URL: http://pdfserv.maxim-ic.com/en/ds/MAX312-MAX314.pdf
footprint NSO16_N (SOIC, 16-Leads, Body 9.9x3.9mm, Pitch 1.27mm, IPC Medium Density)
footprint NSO16_L (SOIC, 16-Leads, Body 9.9x3.9mm, Pitch 1.27mm, IPC High Density)
footprint NSO16_M (SOIC, 16-Leads, Body 9.9x3.9mm, Pitch 1.27mm, IPC Low Density)
3D model NSO16 (16-Pin Small Outline Integrated Circuit 1.27 mm Pitch)
pins: 1 IN1 (in), 2 COM1, 3 NO1, 4 VEE (power), 5 GND (power), 6 NO4, 7 COM4, 8 IN 4 (in), 9 IN3 (in), 10 COM3, 11 NC3, 12 VL (power), 13 VDD (power), 14 NC2, 15 COM2, 16 IN2 (in)

## MAX314CUE
designator U?
10-Ohm, Quad, SPST, CMOS Analog Switches; Published: 16-Jan-2001; LatestRevisionDate: 29-May-2009; LatestRevisionNote: IPC-7351 Footprint Added.; DatasheetVersion: Jun-1999; PackageVersion: 21-0066 C; PackageReference: TSSOP16; Publisher: Altium Limited; PackageDescription: 16-Pin Thin Small Outline Package 0.65 mm Pitch; ComponentLink1Description: Manufacturer Link; ComponentLink1URL: http://www.maxim-ic.com/; ComponentLink2Description: Datasheet; ComponentLink2URL: http://pdfserv.maxim-ic.com/en/ds/MAX312-MAX314.pdf
footprint TSSOP16_N (TSOP, 16-Leads, Body 5x4.4mm, Pitch 0.65mm, IPC Medium Density)
footprint TSSOP16_L (TSOP, 16-Leads, Body 5x4.4mm, Pitch 0.65mm, IPC High Density)
footprint TSSOP16_M (TSOP, 16-Leads, Body 5x4.4mm, Pitch 0.65mm, IPC Low Density)
3D model TSSOP16 (16-Pin Thin Small Outline Package 0.65 mm Pitch)
pins: 1 IN1 (in), 2 COM1, 3 NO1, 4 VEE (power), 5 GND (power), 6 NO4, 7 COM4, 8 IN 4 (in), 9 IN3 (in), 10 COM3, 11 NC3, 12 VL (power), 13 VDD (power), 14 NC2, 15 COM2, 16 IN2 (in)

## MAX314EPE
designator U?
10-Ohm, Quad, SPST, CMOS Analog Switches; Published: 16-Jan-2001; LatestRevisionDate: 29-May-2009; LatestRevisionNote: Component Body Added.; DatasheetVersion: Jun-1999; PackageVersion: 1997; PackageReference: PE16A; Publisher: Altium Limited; PackageDescription: DIP, 16-Pin, Row Spacing 7.62 mm, Pitch 2.54 mm; Code_JEDEC: MS-001-BB; ComponentLink1Description: Manufacturer Link; ComponentLink1URL: http://www.maxim-ic.com/; ComponentLink2Description: Datasheet; ComponentLink2URL: http://pdfserv.maxim-ic.com/en/ds/MAX312-MAX314.pdf
footprint PE16A (DIP, 16-Leads, Row Spacing 7.62mm, Pitch 2.54mm, Body 19.18x6.99mm)
3D model PE16 (DIP, 16-Pin, Row Spacing 7.62 mm, Pitch 2.54 mm)
pins: 1 IN1 (in), 2 COM1, 3 NO1, 4 VEE (power), 5 GND (power), 6 NO4, 7 COM4, 8 IN 4 (in), 9 IN3 (in), 10 COM3, 11 NC3, 12 VL (power), 13 VDD (power), 14 NC2, 15 COM2, 16 IN2 (in)

## MAX314ESE
designator U?
10-Ohm, Quad, SPST, CMOS Analog Switches; Published: 16-Jan-2001; LatestRevisionDate: 13-Apr-2006; LatestRevisionNote: IPC-7351 Footprint Added.; DatasheetVersion: Jun-1999; PackageReference: NSO16; Publisher: Altium Limited; PackageDescription: 16-Pin Small Outline Integrated Circuit 1.27 mm Pitch; Code_JEDEC: MS-012-AC; Code_IPC: SOIC127P600-16; ComponentLink1Description: Manufacturer Link; ComponentLink1URL: http://www.maxim-ic.com/; ComponentLink2Description: Datasheet; ComponentLink2URL: http://pdfserv.maxim-ic.com/en/ds/MAX312-MAX314.pdf
footprint NSO16_N (SOIC, 16-Leads, Body 9.9x3.9mm, Pitch 1.27mm, IPC Medium Density)
footprint NSO16_L (SOIC, 16-Leads, Body 9.9x3.9mm, Pitch 1.27mm, IPC High Density)
footprint NSO16_M (SOIC, 16-Leads, Body 9.9x3.9mm, Pitch 1.27mm, IPC Low Density)
3D model NSO16 (16-Pin Small Outline Integrated Circuit 1.27 mm Pitch)
pins: 1 IN1 (in), 2 COM1, 3 NO1, 4 VEE (power), 5 GND (power), 6 NO4, 7 COM4, 8 IN 4 (in), 9 IN3 (in), 10 COM3, 11 NC3, 12 VL (power), 13 VDD (power), 14 NC2, 15 COM2, 16 IN2 (in)

## MAX314EUE
designator U?
10-Ohm, Quad, SPST, CMOS Analog Switches; Published: 16-Jan-2001; LatestRevisionDate: 29-May-2009; LatestRevisionNote: IPC-7351 Footprint Added.; DatasheetVersion: Jun-1999; PackageVersion: 21-0066 C; PackageReference: TSSOP16; Publisher: Altium Limited; PackageDescription: 16-Pin Thin Small Outline Package 0.65 mm Pitch; ComponentLink1Description: Manufacturer Link; ComponentLink1URL: http://www.maxim-ic.com/; ComponentLink2Description: Datasheet; ComponentLink2URL: http://pdfserv.maxim-ic.com/en/ds/MAX312-MAX314.pdf
footprint TSSOP16_N (TSOP, 16-Leads, Body 5x4.4mm, Pitch 0.65mm, IPC Medium Density)
footprint TSSOP16_L (TSOP, 16-Leads, Body 5x4.4mm, Pitch 0.65mm, IPC High Density)
footprint TSSOP16_M (TSOP, 16-Leads, Body 5x4.4mm, Pitch 0.65mm, IPC Low Density)
3D model TSSOP16 (16-Pin Thin Small Outline Package 0.65 mm Pitch)
pins: 1 IN1 (in), 2 COM1, 3 NO1, 4 VEE (power), 5 GND (power), 6 NO4, 7 COM4, 8 IN 4 (in), 9 IN3 (in), 10 COM3, 11 NC3, 12 VL (power), 13 VDD (power), 14 NC2, 15 COM2, 16 IN2 (in)

## MAX314MJE
designator U?
10-Ohm, Quad, SPST, CMOS Analog Switches; Published: 16-Jan-2001; LatestRevisionDate: 29-May-2009; LatestRevisionNote: Component Body Added.; DatasheetVersion: Jun-1999; PackageVersion: 1996; PackageReference: JE16; Publisher: Altium Limited; PackageDescription: DIP, 16-Pin, Row Spacing 7.62 mm, Pitch 2.54 mm; ComponentLink1Description: Manufacturer Link; ComponentLink1URL: http://www.maxim-ic.com/; ComponentLink2Description: Datasheet; ComponentLink2URL: http://pdfserv.maxim-ic.com/en/ds/MAX312-MAX314.pdf
footprint JE16 (DIP, 16-Leads, Row Spacing 7.62mm, Pitch 2.54mm, Body 20.37x6.73mm)
3D model JE16 (DIP, 16-Pin, Row Spacing 7.62 mm, Pitch 2.54 mm)
pins: 1 IN1 (in), 2 COM1, 3 NO1, 4 VEE (power), 5 GND (power), 6 NO4, 7 COM4, 8 IN 4 (in), 9 IN3 (in), 10 COM3, 11 NC3, 12 VL (power), 13 VDD (power), 14 NC2, 15 COM2, 16 IN2 (in)

## MAX319CJA
designator U?
Precision, CMOS Analog Switch; Note: The pin name NC stands for Normally Closed; Published: 16-Jan-2001; LatestRevisionDate: 29-May-2009; LatestRevisionNote: Component Body Added.; DatasheetVersion: Nov-1994; PackageVersion: 1996; PackageReference: JA8; Publisher: Altium Limited; PackageDescription: DIP, 8-Pin, Row Spacing 7.62 mm, Pitch 2.54 mm; ComponentLink1Description: Manufacturer Link; ComponentLink1URL: http://www.maxim-ic.com/; ComponentLink2Description: Datasheet; ComponentLink2URL: http://pdfserv.maxim-ic.com/en/ds/MAX317-MAX319.pdf
footprint JA8 (DIP, 8-Leads, Row Spacing 7.62mm, Pitch 2.54mm, Body 9.91x6.73mm)
3D model PA8 (DIP, 8-Pin, Row Spacing 7.62 mm, Pitch 2.54 mm)
pins: 1 COM (in), 2 NC (io), 3 GND (power), 4 VDD (power), 5 VL (power), 6 IN (in), 7 VEE (power), 8 NO (io)

## MAX319CPA
designator U?
Precision, CMOS Analog Switch; Note: The pin name NC stands for Normally Closed; Published: 16-Jan-2001; LatestRevisionDate: 29-May-2009; LatestRevisionNote: Component Body Added.; DatasheetVersion: Nov-1994; PackageVersion: RevB, 21-0043; PackageReference: PA8; Publisher: Altium Limited; PackageDescription: DIP, 8-Pin, Row Spacing 7.62 mm, Pitch 2.54 mm; Code_JEDEC: MS-001-AB; ComponentLink1Description: Manufacturer Link; ComponentLink1URL: http://www.maxim-ic.com/; ComponentLink2Description: Datasheet; ComponentLink2URL: http://pdfserv.maxim-ic.com/en/ds/MAX317-MAX319.pdf
footprint PA8 (DIP, 8-Leads, Row Spacing 7.62mm, Pitch 2.54mm, Body 9.38x7.24mm)
3D model PA8 (DIP, 8-Pin, Row Spacing 7.62 mm, Pitch 2.54 mm)
pins: 1 COM (in), 2 NC (io), 3 GND (power), 4 VDD (power), 5 VL (power), 6 IN (in), 7 VEE (power), 8 NO (io)

## MAX319CSA
designator U?
Precision, CMOS Analog Switch; Note: The pin name NC stands for Normally Closed; Published: 16-Jan-2001; LatestRevisionDate: 13-Apr-2006; LatestRevisionNote: IPC-7351 Footprint Added.; DatasheetVersion: Nov-1994; PackageReference: NSO8; Publisher: Altium Limited; PackageDescription: 8-Pin Small Outline Integrated Circuit 1.27 mm Pitch; Code_JEDEC: MS-012-AA; Code_IPC: SOIC127P600-8; ComponentLink1Description: Manufacturer Link; ComponentLink1URL: http://www.maxim-ic.com/; ComponentLink2Description: Datasheet; ComponentLink2URL: http://pdfserv.maxim-ic.com/en/ds/MAX317-MAX319.pdf
footprint NSO8_N (SOIC, 8-Leads, Body 4.9x3.9mm, Pitch 1.27mm, IPC Medium Density)
footprint NSO8_L (SOIC, 8-Leads, Body 4.9x3.9mm, Pitch 1.27mm, IPC High Density)
footprint NSO8_M (SOIC, 8-Leads, Body 4.9x3.9mm, Pitch 1.27mm, IPC Low Density)
3D model NSO8 (8-Pin Small Outline Integrated Circuit 1.27 mm Pitch)
pins: 1 COM (in), 2 NC (io), 3 GND (power), 4 VDD (power), 5 VL (power), 6 IN (in), 7 VEE (power), 8 NO (io)

## MAX319EPA
designator U?
Precision, CMOS Analog Switch; Note: The pin name NC stands for Normally Closed; Published: 16-Jan-2001; LatestRevisionDate: 29-May-2009; LatestRevisionNote: Component Body Added.; DatasheetVersion: Nov-1994; PackageVersion: RevB, 21-0043; PackageReference: PA8; Publisher: Altium Limited; PackageDescription: DIP, 8-Pin, Row Spacing 7.62 mm, Pitch 2.54 mm; Code_JEDEC: MS-001-AB; ComponentLink1Description: Manufacturer Link; ComponentLink1URL: http://www.maxim-ic.com/; ComponentLink2Description: Datasheet; ComponentLink2URL: http://pdfserv.maxim-ic.com/en/ds/MAX317-MAX319.pdf
footprint PA8 (DIP, 8-Leads, Row Spacing 7.62mm, Pitch 2.54mm, Body 9.38x7.24mm)
3D model PA8 (DIP, 8-Pin, Row Spacing 7.62 mm, Pitch 2.54 mm)
pins: 1 COM (in), 2 NC (io), 3 GND (power), 4 VDD (power), 5 VL (power), 6 IN (in), 7 VEE (power), 8 NO (io)

## MAX319ESA
designator U?
Precision, CMOS Analog Switch; Note: The pin name NC stands for Normally Closed; Published: 16-Jan-2001; LatestRevisionDate: 13-Apr-2006; LatestRevisionNote: IPC-7351 Footprint Added.; DatasheetVersion: Nov-1994; PackageReference: NSO8; Publisher: Altium Limited; PackageDescription: 8-Pin Small Outline Integrated Circuit 1.27 mm Pitch; Code_JEDEC: MS-012-AA; Code_IPC: SOIC127P600-8; ComponentLink1Description: Manufacturer Link; ComponentLink1URL: http://www.maxim-ic.com/; ComponentLink2Description: Datasheet; ComponentLink2URL: http://pdfserv.maxim-ic.com/en/ds/MAX317-MAX319.pdf
footprint NSO8_N (SOIC, 8-Leads, Body 4.9x3.9mm, Pitch 1.27mm, IPC Medium Density)
footprint NSO8_L (SOIC, 8-Leads, Body 4.9x3.9mm, Pitch 1.27mm, IPC High Density)
footprint NSO8_M (SOIC, 8-Leads, Body 4.9x3.9mm, Pitch 1.27mm, IPC Low Density)
3D model NSO8 (8-Pin Small Outline Integrated Circuit 1.27 mm Pitch)
pins: 1 COM (in), 2 NC (io), 3 GND (power), 4 VDD (power), 5 VL (power), 6 IN (in), 7 VEE (power), 8 NO (io)

## MAX319MJA
designator U?
Precision, CMOS Analog Switch; Note: The pin name NC stands for Normally Closed; Published: 16-Jan-2001; LatestRevisionDate: 29-May-2009; LatestRevisionNote: Component Body Added.; DatasheetVersion: Nov-1994; PackageVersion: 1996; PackageReference: JA8; Publisher: Altium Limited; PackageDescription: DIP, 8-Pin, Row Spacing 7.62 mm, Pitch 2.54 mm; ComponentLink1Description: Manufacturer Link; ComponentLink1URL: http://www.maxim-ic.com/; ComponentLink2Description: Datasheet; ComponentLink2URL: http://pdfserv.maxim-ic.com/en/ds/MAX317-MAX319.pdf
footprint JA8 (DIP, 8-Leads, Row Spacing 7.62mm, Pitch 2.54mm, Body 9.91x6.73mm)
3D model PA8 (DIP, 8-Pin, Row Spacing 7.62 mm, Pitch 2.54 mm)
pins: 1 COM (in), 2 NC (io), 3 GND (power), 4 VDD (power), 5 VL (power), 6 IN (in), 7 VEE (power), 8 NO (io)

## MAX326CPE
designator U?
Quad, SPST, Ultra-Low Leakage, CMOS Analog Switch; Published: 16-Jan-2001; LatestRevisionDate: 29-May-2009; LatestRevisionNote: Component Body Added.; DatasheetVersion: Jul-1996; PackageVersion: 1997; PackageReference: PE16A; Publisher: Altium Limited; PackageDescription: DIP, 16-Pin, Row Spacing 7.62 mm, Pitch 2.54 mm; Code_JEDEC: MS-001-BB; ComponentLink1Description: Manufacturer Link; ComponentLink1URL: http://www.maxim-ic.com/; ComponentLink2Description: Datasheet; ComponentLink2URL: http://pdfserv.maxim-ic.com/en/ds/MAX326-MAX327.pdf
footprint PE16A (DIP, 16-Leads, Row Spacing 7.62mm, Pitch 2.54mm, Body 19.18x6.99mm)
3D model PE16 (DIP, 16-Pin, Row Spacing 7.62 mm, Pitch 2.54 mm)
pins: 1 IN1 (in), 2 D1 (io), 3 S1 (io), 4 VEE (power), 5 GND (power), 6 S4 (io), 7 D4 (io), 8 IN4 (in), 9 IN3 (in), 10 D3 (io), 11 S3 (io), 12 NC, 13 VDD (power), 14 S2 (io), 15 D2 (io), 16 IN2 (in)

## MAX326CSE
designator U?
Quad, SPST, Ultra-Low Leakage, CMOS Analog Switch; Published: 16-Jan-2001; LatestRevisionDate: 13-Apr-2006; LatestRevisionNote: IPC-7351 Footprint Added.; DatasheetVersion: Jul-1996; PackageReference: NSO16; Publisher: Altium Limited; PackageDescription: 16-Pin Small Outline Integrated Circuit 1.27 mm Pitch; Code_JEDEC: MS-012-AC; Code_IPC: SOIC127P600-16; ComponentLink1Description: Manufacturer Link; ComponentLink1URL: http://www.maxim-ic.com/; ComponentLink2Description: Datasheet; ComponentLink2URL: http://pdfserv.maxim-ic.com/en/ds/MAX326-MAX327.pdf
footprint NSO16_N (SOIC, 16-Leads, Body 9.9x3.9mm, Pitch 1.27mm, IPC Medium Density)
footprint NSO16_L (SOIC, 16-Leads, Body 9.9x3.9mm, Pitch 1.27mm, IPC High Density)
footprint NSO16_M (SOIC, 16-Leads, Body 9.9x3.9mm, Pitch 1.27mm, IPC Low Density)
3D model NSO16 (16-Pin Small Outline Integrated Circuit 1.27 mm Pitch)
pins: 1 IN1 (in), 2 D1 (io), 3 S1 (io), 4 VEE (power), 5 GND (power), 6 S4 (io), 7 D4 (io), 8 IN4 (in), 9 IN3 (in), 10 D3 (io), 11 S3 (io), 12 NC, 13 VDD (power), 14 S2 (io), 15 D2 (io), 16 IN2 (in)